# Altium footprint library Safety.PcbLib: 21 footprints (part 1 of 2)
Each footprint in its own frame and in the unit in brackets; x right, y up, seen from the top. Pads: shape width x height; smd on the part's side, far side on the other; paste and mask are expansions set on the pad; w line width, h text height; cw(c..) or ccw(c..) is an arc to the next point about the centre after c.
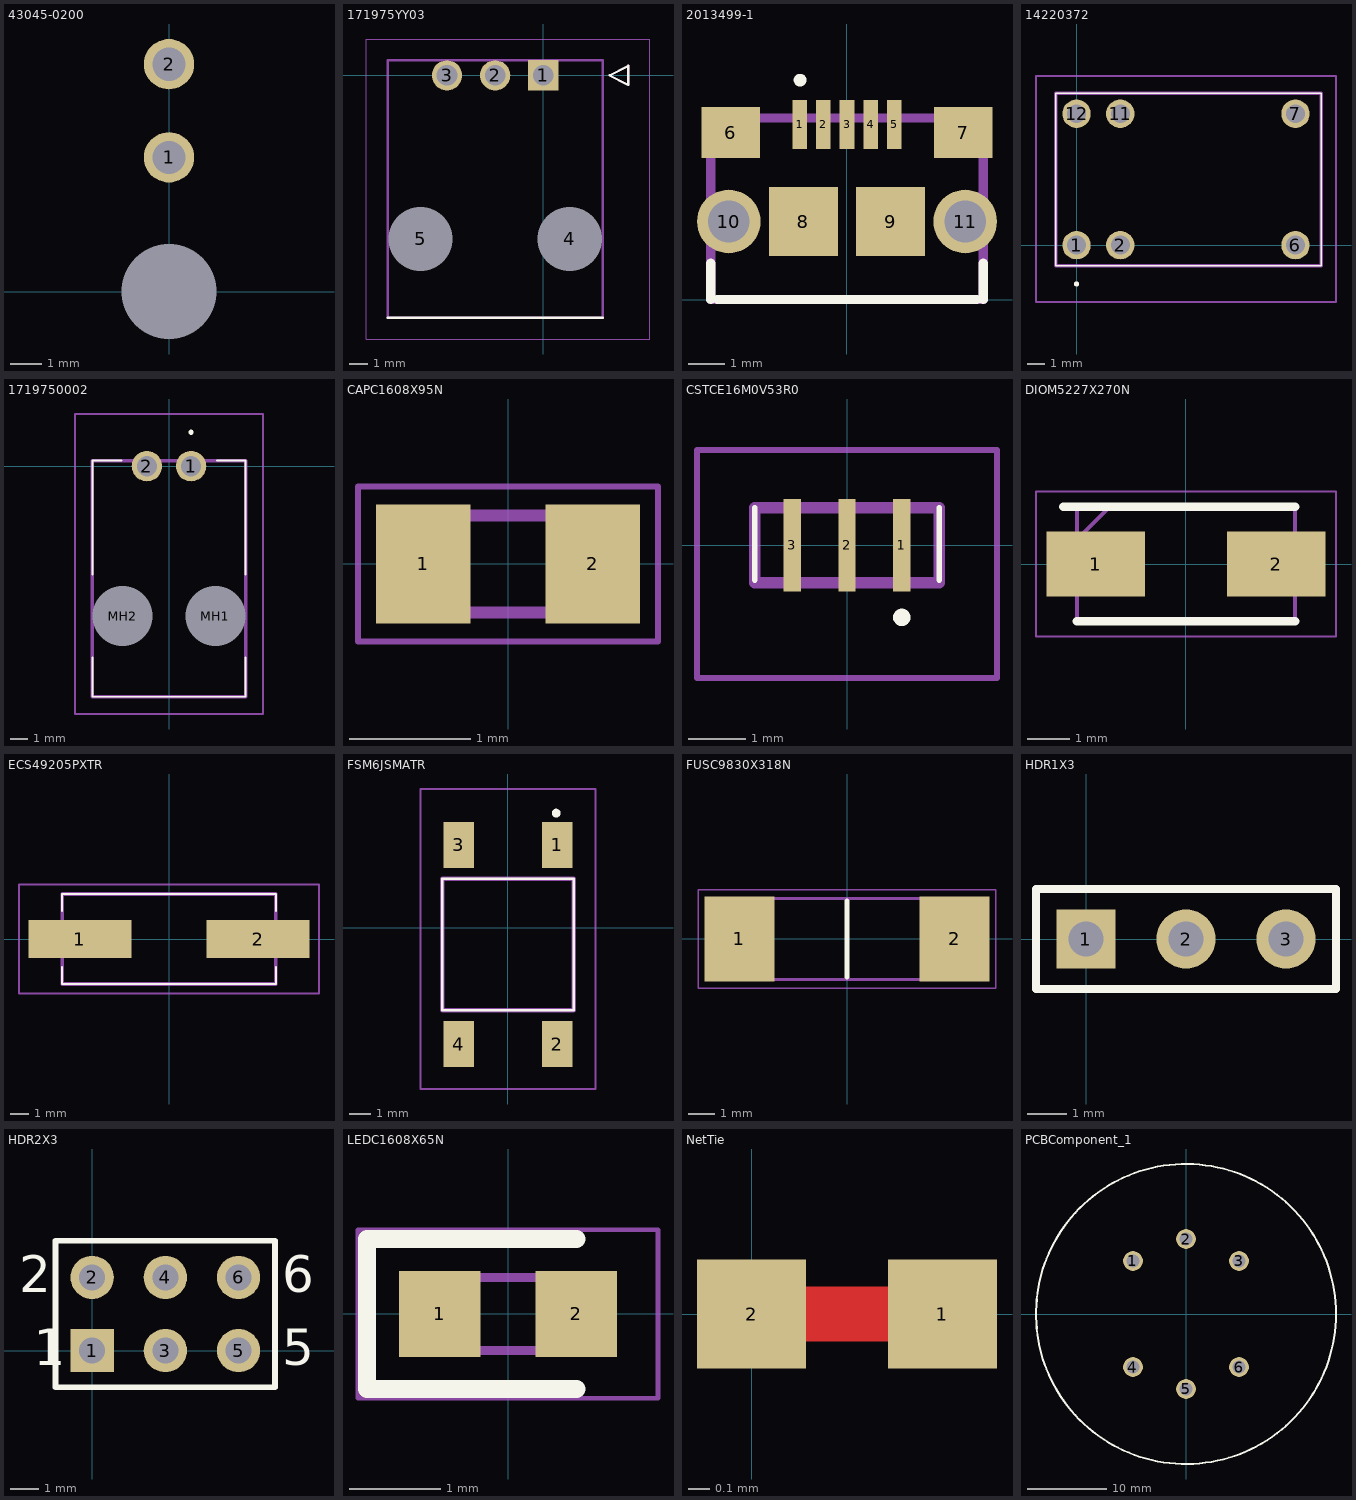
[diagram p0: the footprints below, top view; thin cyan lines are the x and y axes]

## 43045-0200 [mm]
pads (3):
  round 1.62 hole 1.07: 1(0,4.32) 2(0,7.32)
  round 0 hole 3.05: 3(0,0)
3D body "0430450200.stp": height 8.25, standoff -3.7, extent -3.575,-4.6 3.575,7.64

## 171975YY03 [mm]
pads (5):
  rect 1.6x1.6 hole 1.09: 1(0,0)
  round 1.6 hole 1.09: 2(-2.54,0) 3(-5.08,0)
  round 1.7 hole 3.4 unplated: 4(1.4,-8.64) 5(-6.48,-8.64)
Top Overlay:
  lines w0.127: -8.22,-12.795 3.14,-12.795 ; 3.5,0 4.5,-0.5 4.5,0.5 3.5,0
Mechanical 13:
  lines w0.127: -8.22,-12.795 3.14,-12.795 3.14,0.795 -8.22,0.795 -8.22,-12.795 ; 3.5,0 4.5,-0.5 4.5,0.5 3.5,0
Mechanical 15:
  lines w0.05: -9.347,-13.922 5.627,-13.922 5.627,1.922 -9.347,1.922 -9.347,-13.922
3D body "1719750003.stp": height 7.1, standoff -5, extent -8.22,-12.795 4.5,0.795

## 2013499-1 [mm]
pads (11):
  rect 0.4x1.35 smd: 1(-1.3,4.825) 2(-0.65,4.825) 3(0,4.825) 4(0.65,4.825) 5(1.3,4.825)
  rect 1.6x1.4 smd: 6(-3.2,4.6) 7(3.2,4.6)
  rect 1.9x1.9 smd: 8(-1.2,2.15) 9(1.2,2.15)
  round 1.75 hole 1.15: 10(-3.255,2.15) 11(3.255,2.15)
Top Overlay:
  circle w0.254: c-1.293,6.043 r0.047
  lines w0.254: -3.75,0 -3.75,1 ; -3.564,0 3.575,0 ; 3.75,0 3.75,1
Mechanical 13:
  lines w0.254: -3.75,0 3.75,0 3.75,5 -3.75,5 -3.75,0
3D body "2013499-1.stp": height 2.68, standoff -0.89, extent -3.97,-0.56 4.03,5.04

## 14220372 [mm]
pads (6):
  round 1.65 hole 1.1: 1(0,0) 2(2.54,0) 6(12.7,0) 7(12.7,7.62) 11(2.54,7.62) 12(0,7.62)
Top Overlay:
  lines w0.1: -1.2,-1.19 14.2,-1.19 14.2,8.81 -1.2,8.81 -1.2,-1.19
  lines w0.2: 0,-2.3 cw(c0,-2.25) 0,-2.2 ; 0,-2.3 ccw(c0,-2.25) 0,-2.2 ; 0,-2.3 cw(c0,-2.25) 0,-2.2
Mechanical 13:
  lines w0.2: -1.2,-1.19 -1.2,8.81 14.2,8.81 14.2,-1.19 -1.2,-1.19
Mechanical 15:
  lines w0.1: -2.35,-3.3 -2.35,9.81 15.05,9.81 15.05,-3.3 -2.35,-3.3
3D body "1422037-2.stp": height 12.06, standoff -2.84, extent -1.273,-1.44 14.227,9.06

## 1719750002 [mm]
pads (4):
  round 1.755 hole 1.17: 1(1.27,0) 2(-1.27,0)
  round 1.725 hole 3.45 unplated: MH1(2.67,-8.64) MH2(-2.67,-8.64)
Top Overlay:
  lines w0.1: -4.41,-13.27 -4.41,-11 -4.41,-13.27 ; -4.41,-13.27 4.41,-13.27 -4.41,-13.27 ; -4.41,0.32 -4.41,-6.25 -4.41,0.32 ; -4.41,0.32 -2.73,0.32 -4.41,0.32 ; 4.41,0.32 4.41,-6.25 4.41,0.32 ; 4.41,0.32 2.77,0.32 4.41,0.32 ; 4.41,-13.25 4.41,-11 4.41,-13.25
  lines w0.2: 1.27,1.9 cw(c1.27,1.95) 1.27,2 ; 1.27,1.9 ccw(c1.27,1.95) 1.27,2 ; 1.27,1.9 cw(c1.27,1.95) 1.27,2
Mechanical 13:
  lines w0.2: -4.41,-13.27 -4.41,0.32 4.41,0.32 4.41,-13.27 -4.41,-13.27
Mechanical 15:
  lines w0.1: -5.41,-14.27 -5.41,3 5.41,3 5.41,-14.27 -5.41,-14.27
3D body "1719750002.stp": height 7.63, standoff -3.05, extent -4.318,-12.891 4.502,0.699

## CAPC1608X95N [mm]
pads (2):
  rect 0.78x0.98 smd: 1(-0.7,0) 2(0.7,0)
Mechanical 13:
  lines w0.1: -0.8,-0.4 0.8,-0.4 0.8,0.4 -0.8,0.4 -0.8,-0.4
Mechanical 15:
  lines w0.05: -1.24,-0.64 1.24,-0.64 1.24,0.64 -1.24,0.64 -1.24,-0.64
3D body "C0603C104K3RACTU.stp": height 0.95, standoff 0, extent -0.8,-0.4 0.8,0.4

## CSTCE16M0V53R0 [mm]
pads (3):
  rect 0.3x1.6 smd: 1(0.95,0) 2(0,0) 3(-0.95,0)
Top Overlay:
  lines w0.1: -1.6,-0.6 -1.6,0.65 -1.6,-0.6 ; 1.6,-0.6 1.6,0.65 1.6,-0.6
  lines w0.2: 0.95,-1.3 cw(c0.95,-1.25) 0.95,-1.2 ; 0.95,-1.3 ccw(c0.95,-1.25) 0.95,-1.2 ; 0.95,-1.3 cw(c0.95,-1.25) 0.95,-1.2
Mechanical 13:
  lines w0.2: -1.6,-0.65 -1.6,0.65 1.6,0.65 1.6,-0.65 -1.6,-0.65
Mechanical 15:
  lines w0.1: -2.6,-2.3 -2.6,1.65 2.6,1.65 2.6,-2.3 -2.6,-2.3

## DIOM5227X270N [mm]
pads (2):
  rect 2.35x1.55 smd: 1(-2.15,0) 2(2.15,0)
Top Overlay:
  lines w0.2: -2.925,1.362 2.6,1.362 ; -2.6,-1.362 2.6,-1.362
Mechanical 13:
  lines w0.1: -2.6,0.588 -1.825,1.362 ; -2.6,-1.362 2.6,-1.362 2.6,1.362 -2.6,1.362 -2.6,-1.362
Mechanical 15:
  lines w0.05: -3.575,-1.725 3.575,-1.725 3.575,1.725 -3.575,1.725 -3.575,-1.725
3D body "S1A.stp": height 2.7, standoff 0, extent -2.6,-1.362 2.6,1.362

## ECS49205PXTR [mm]
pads (2):
  rect 5.5x2 smd: 1(-4.75,0) 2(4.75,0)
Top Overlay:
  lines w0.1: -5.7,-1.5 -5.7,-2.4 5.7,-2.4 5.7,-1.5 ; -5.7,1.5 -5.7,2.4 5.7,2.4 5.7,1.5
Mechanical 13:
  lines w0.2: -5.7,-2.4 5.7,-2.4 5.7,2.4 -5.7,2.4 -5.7,-2.4
Mechanical 15:
  lines w0.1: -8,-2.9 8,-2.9 8,2.9 -8,2.9 -8,-2.9
3D body "ECS-160-18-5PX-CKM-TR.stp": height 4.4, standoff 0, extent -7.3,-2.4 7.3,2.4

## FSM6JSMATR [mm]
pads (4):
  rect 1.4x2.1 smd: 1(2.25,3.775) 2(2.25,-5.325) 3(-2.25,3.775) 4(-2.25,-5.325)
Top Overlay:
  lines w0.1: -3,-3.775 3,-3.775 3,2.225 -3,2.225 -3,-3.775
  lines w0.2: 2.1,5.225 ccw(c2.2,5.225) 2.3,5.225 ccw(c2.2,5.225) 2.1,5.225
Mechanical 13:
  lines w0.2: -3,-3.775 3,-3.775 3,2.225 -3,2.225 -3,-3.775
Mechanical 15:
  lines w0.1: -4,-7.375 4,-7.375 4,6.325 -4,6.325 -4,-7.375
3D body "5-1437565-0.stp": height 7.21, standoff 0.14, extent -3,-5.635 3,4.365

## FUSC9830X318N [mm]
pads (2):
  rect 2.62x3.2 smd: 1(-4.05,0) 2(4.05,0)
Top Overlay:
  lines w0.2: 0,-1.425 0,1.425
Mechanical 13:
  lines w0.1: -4.9,-1.525 4.9,-1.525 4.9,1.525 -4.9,1.525 -4.9,-1.525
Mechanical 15:
  lines w0.05: -5.61,-1.85 5.61,-1.85 5.61,1.85 -5.61,1.85 -5.61,-1.85
3D body "0678H9100-02.stp": height 3.18, standoff 0, extent -4.9,-1.525 4.9,1.525

## HDR1X3 [mm] "Connector; Header; 3 Position"
pads (3):
  rect 1.5x1.5 hole 0.9: 1(0,0)
  round 1.5 hole 0.9: 2(2.54,0) 3(5.08,0)
Top Overlay:
  lines w0.2: -1.27,-1.27 6.35,-1.27 6.35,1.27 -1.27,1.27 -1.27,-1.27

## HDR2X3 [mm] "Connector; Header; 3x2 Position"
pads (6):
  rect 1.5x1.5 hole 0.9: 1(0,0)
  round 1.5 hole 0.9: 2(0,2.54) 3(2.54,0) 4(2.54,2.54) 5(5.08,0) 6(5.08,2.54)
Top Overlay:
  lines w0.2: 1.482,-1.27 6.35,-1.27 ; 6.35,-1.27 6.35,3.81 -1.27,3.81 -1.27,-1.27 6.35,-1.27
  text "6" at 6.604,2.032 h1.27
  text "5" at 6.604,-0.508 h1.27
  text "2" at -2.54,2.032 h1.27
  text "1" at -2.032,-0.508 h1.27

## LEDC1608X65N [mm]
pads (2):
  rect 0.9x0.95 smd: 1(-0.75,0) 2(0.75,0)
Top Overlay:
  lines w0.2: 0.75,-0.825 -1.55,-0.825 -1.55,0.825 0.75,0.825
Mechanical 13:
  lines w0.1: -0.8,0.133 -0.533,0.4 ; -0.8,-0.4 -0.8,0.4 0.8,0.4 0.8,-0.4 -0.8,-0.4
Mechanical 15:
  lines w0.05: -1.65,-0.925 -1.65,0.925 1.65,0.925 1.65,-0.925 -1.65,-0.925

## NetTie [mil]
pads (2):
  rect 20x20 smd paste+0 mask+4: 1(35,0) 2(0,0)
Top Layer:
  lines w10: 0,0 35,0

## PCBComponent_1 [mm]
pads (6):
  round 2.5 hole 1.6: 1(-6.718,6.718) 2(0,9.5) 3(6.718,6.718) 4(-6.718,-6.718) 5(0,-9.5) 6(6.718,-6.718)
Top Overlay:
  circle w0.254: c0,0 r19